# Altium footprint library Main.PcbLib: 1 footprints
Each footprint in its own frame and in the unit in brackets; x right, y up, seen from the top. Pads: shape width x height; smd on the part's side, far side on the other; paste and mask are expansions set on the pad; w line width, h text height; cw(c..) or ccw(c..) is an arc to the next point about the centre after c.
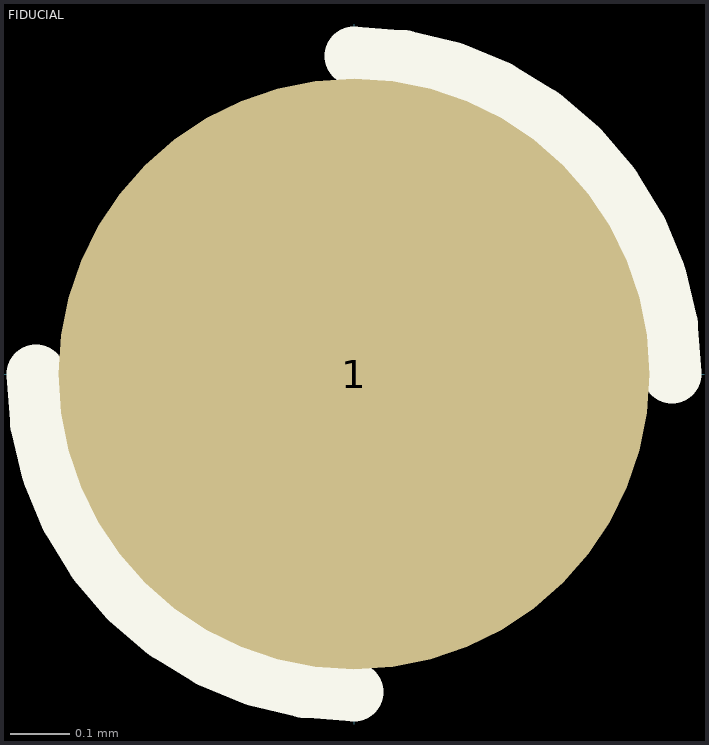
[diagram p0: the footprint, top view; thin cyan lines are the x and y axes]

## FIDUCIAL [mm] "InGun Receptable KS100"
pads (1):
  round 1 smd paste-1 mask-0.05: 1(0,0)
Top Overlay:
  lines w0.1: -0.539,0 ccw(c0,0) 0,-0.539 ; 0,0.539 cw(c0,0) 0.539,0